# Altium footprint library Connector.PcbLib: 2 footprints
Each footprint in its own frame and in the unit in brackets; x right, y up, seen from the top. Pads: shape width x height; smd on the part's side, far side on the other; paste and mask are expansions set on the pad; w line width, h text height; cw(c..) or ccw(c..) is an arc to the next point about the centre after c.
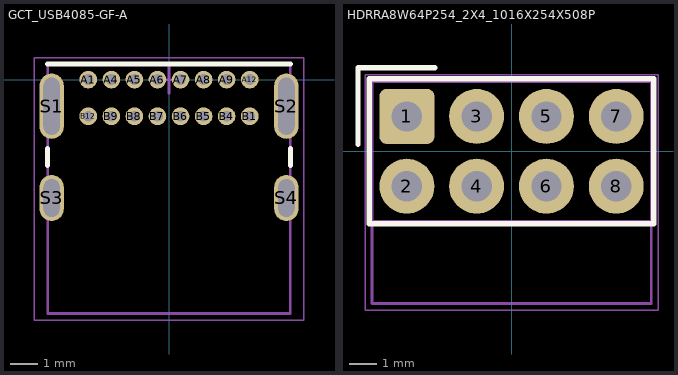
[diagram p0: the footprints below, top view; thin cyan lines are the x and y axes]

## GCT_USB4085-GF-A [mm]
pads (20):
  round 0.65 hole 0.4: A1(-2.975,0) A4(-2.125,0) A5(-1.275,0) A6(-0.425,0) A7(0.425,0) A8(1.275,0) A9(2.125,0) A12(2.975,0) B1(2.975,-1.35) B4(2.125,-1.35) B5(1.275,-1.35) B6(0.425,-1.35) B7(-0.425,-1.35) B8(-1.275,-1.35) B9(-2.125,-1.35) B12(-2.975,-1.35)
  oval 0.9x2.4 hole 0.6 slot 2.1 at 90 deg: S1(-4.325,-0.98) S2(4.325,-0.98)
  oval 0.9x1.7 hole 0.6 slot 1.4 at 90 deg: S3(-4.325,-4.36) S4(4.325,-4.36)
Top Overlay:
  lines w0.2: -4.475,-3.15 -4.475,-2.55 ; -4.475,0.575 4.475,0.575 ; 4.475,-3.15 4.475,-2.55
Mechanical 13:
  lines w0.1: -4.47,-8.614 -4.47,0.556 4.47,0.556 4.47,-8.614 -4.47,-8.614
Mechanical 15:
  lines w0.05: -4.97,-8.864 4.97,-8.864 4.97,0.806 -4.97,0.806 -4.97,-8.864
  lines w0.1: -0.5,0 0.5,0 ; 0,-0.5 0,0.5
3D body "USB4085-GF-A.stp": height 3.48, standoff -2.07, extent -4.47,-8.614 4.47,0.556

## HDRRA8W64P254_2X4_1016X254X508P [mm] "Header, right angle, 2.54mm pitch; 0.635mm lead width, 8 pins, 2 rows, 4 pins per row, 10.16mm L X 2.54mm W X 5.08mm H body"
height 5.08
pads (8):
  rrect25% 2x2 hole 1.1: 1(-3.81,1.27)
  round 2 hole 1.1: 2(-3.81,-1.27) 3(-1.27,1.27) 4(-1.27,-1.27) 5(1.27,1.27) 6(1.27,-1.27) 7(3.81,1.27) 8(3.81,-1.27)
Top Overlay:
  lines w0.2: -5.588,0.254 -5.588,3.048 -2.794,3.048 ; -5.18,-2.64 5.18,-2.64 5.18,2.64 -5.18,2.64 -5.18,-2.64
Mechanical 13:
  lines w0.1: -5.08,2.54 5.08,2.54 ; -5.08,2.54 -5.08,-5.54 5.08,-5.54 5.08,2.54 ; -5.08,2.54 5.08,2.54 ; -5.08,2.54 -5.08,-2.54 5.08,-2.54 5.08,2.54
Mechanical 15:
  lines w0.05: -5.33,-5.79 5.33,-5.79 5.33,2.79 -5.33,2.79 -5.33,-5.79
3D body "HDRRA8W64P254_2X4_1016X254X508P.stp": height 6.9, standoff -6, extent -5.08,-5.54 5.08,2.54